# Altium footprint library MMBT3904.PcbLib: 1 footprints
Each footprint in its own frame and in the unit in brackets; x right, y up, seen from the top. Pads: shape width x height; smd on the part's side, far side on the other; paste and mask are expansions set on the pad; w line width, h text height; cw(c..) or ccw(c..) is an arc to the next point about the centre after c.
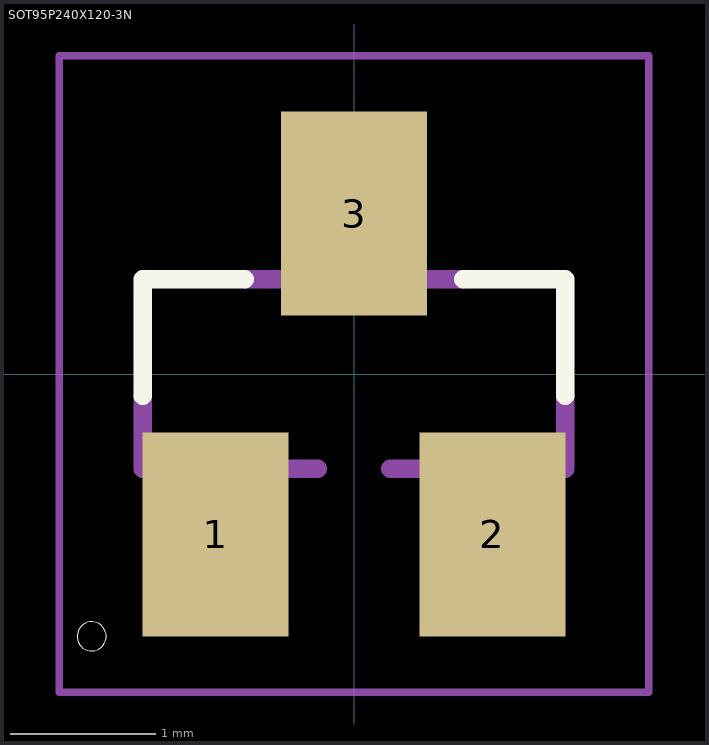
[diagram p0: the footprint, top view; thin cyan lines are the x and y axes]

## SOT95P240X120-3N [mm]
pads (3):
  rect 1x1.4 smd: 1(-0.95,-1.1) 2(0.95,-1.1) 3(0,1.1)
Top Overlay:
  circle w0: c-1.8,-1.8 r0.1
  lines w0.127: -1.45,-0.15 -1.45,0.65 -0.75,0.65 ; 0.75,0.65 1.45,0.65 1.45,-0.15
Mechanical 13:
  lines w0.127: -1.45,-0.15 -1.45,-0.65 -0.25,-0.65 ; -0.75,0.65 0.75,0.65 ; 0.25,-0.65 1.45,-0.65 1.45,-0.15
Mechanical 15:
  lines w0.051: -2.023,-2.183 -2.023,2.183 2.023,2.183 2.023,-2.183 -2.023,-2.183
3D body "step_temp.STEP": height 1.2, standoff -0.1, extent -1.516,-1.203 1.524,1.397